# Altium footprint library RJK0451DPB.PcbLib: 3 footprints
Each footprint in its own frame and in the unit in brackets; x right, y up, seen from the top. Pads: shape width x height; smd on the part's side, far side on the other; paste and mask are expansions set on the pad; w line width, h text height; cw(c..) or ccw(c..) is an arc to the next point about the centre after c.
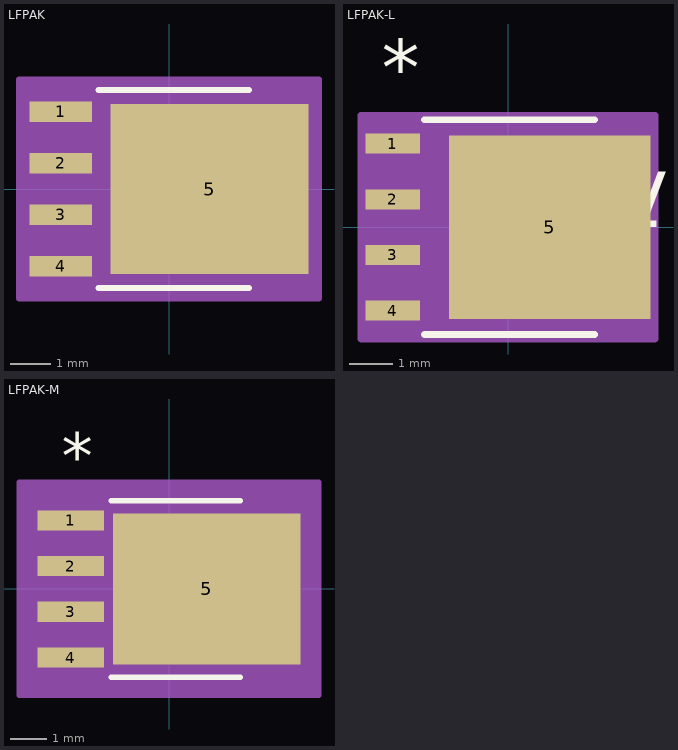
[diagram p0: the footprints below, top view; thin cyan lines are the x and y axes]

## LFPAK [mil]
pads (5):
  rect 61x20 smd: 1(-105.5,75) 2(-105.5,25) 3(-105.5,-25) 4(-105.5,-75)
  rect 193x165 smd: 5(39.5,0)
Top Overlay:
  lines w6: -68.73,-96.5 78,-96.5 ; -68.73,96.5 78,96.5
Mechanical 15:
  region: 146,-106.5 -146,-106.5 -146,106.5 146,106.5
  lines w6: -146,-106.5 146,-106.5 146,106.5 -146,106.5 -146,-106.5
3D body "LFPAK.stp": height 43.1, standoff 0, extent -122,-96.5 122,96.5

## LFPAK-L [mil]
pads (5):
  rect 49x18 smd: 1(-103.5,75) 2(-103.5,25) 3(-103.5,-25) 4(-103.5,-75)
  rect 181x165 smd: 5(37.5,0)
Top Overlay:
  lines w6: -75.08,-96.5 78,-96.5 ; -75.08,96.5 78,96.5
  text "*" at -113.5,119 h50
  text "PN" at 0,0 h50
  text "DEV" at 0,0 h50
  text "VAL" at 0,0 h50
  text "TOL" at 0,0 h50
Mechanical 13:
  text "*" at -113.5,119 h50
  text "RefDes2" at 0,0 h50
Mechanical 15:
  region: 132,-100.5 -132,-100.5 -132,100.5 132,100.5
  lines w6: -132,-100.5 -132,100.5 132,100.5 132,-100.5 -132,-100.5
3D body "LFPAK-L.stp": height 43.1, standoff 0, extent -122,-96.5 122,96.5

## LFPAK-M [mil]
pads (5):
  rect 73x22 smd: 1(-107.5,75) 2(-107.5,25) 3(-107.5,-25) 4(-107.5,-75)
  rect 205x165 smd: 5(41.5,0)
Top Overlay:
  lines w6: -63.17,-96.5 78,-96.5 ; -63.17,96.5 78,96.5
  text "*" at -117.5,121 h50
  text "PN" at 0,0 h50
  text "DEV" at 0,0 h50
  text "VAL" at 0,0 h50
  text "TOL" at 0,0 h50
Mechanical 13:
  text "*" at -117.5,121 h50
  text "RefDes2" at 0,0 h50
Mechanical 15:
  region: 164,-116.5 -164,-116.5 -164,116.5 164,116.5
  lines w6: -164,-116.5 -164,116.5 164,116.5 164,-116.5 -164,-116.5
3D body "LFPAK-M.stp": height 43.1, standoff 0, extent -122,-96.5 122,96.5